# Altium footprint library PCB - CONNECTOR - WURTH - WURTH 693071010811.PCBLIB: 1 footprints
Each footprint in its own frame and in the unit in brackets; x right, y up, seen from the top. Pads: shape width x height; smd on the part's side, far side on the other; paste and mask are expansions set on the pad; w line width, h text height; cw(c..) or ccw(c..) is an arc to the next point about the centre after c.
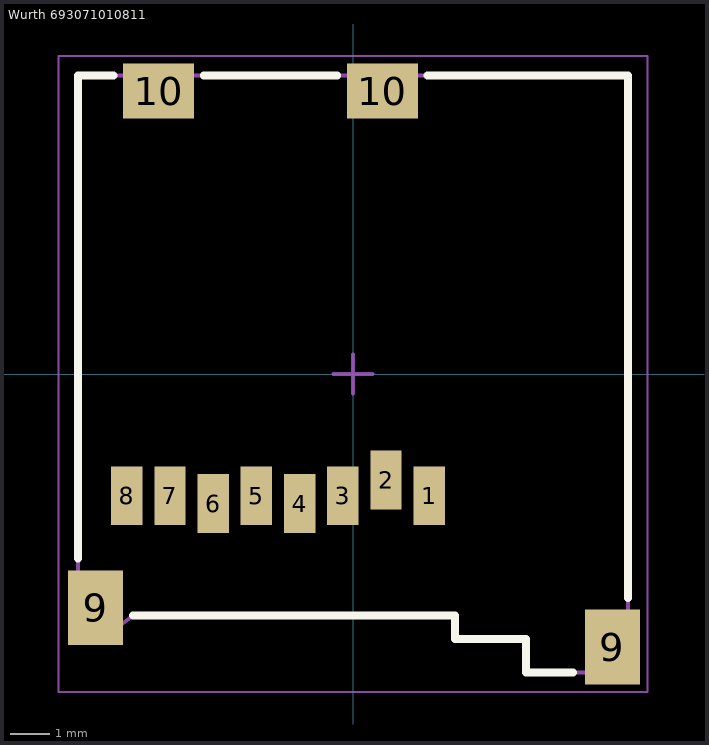
[diagram p0: the footprint, top view; thin cyan lines are the x and y axes]

## Wurth 693071010811 [mm] "9 (8 + 1) Position Card Connector Secure Digital - microSD™ Surface Mount, Right Angle Gold"
height 1.83
pads (12):
  rect 0.8x1.5 smd: 1(1.94,-3.1) 2(0.84,-2.7) 3(-0.26,-3.1) 4(-1.36,-3.3) 5(-2.46,-3.1) 6(-3.56,-3.3) 7(-4.66,-3.1) 8(-5.76,-3.1)
  rect 1.4x1.9 smd: 9(-6.55,-5.95) 9(6.6,-6.95)
  rect 1.8x1.4 smd: 10(-4.95,7.2) 10(0.75,7.2)
Top Overlay:
  lines w0.2: -7,-4.7 -7,7.6 -6.1,7.6 ; -5.6,-6.15 2.6,-6.15 2.6,-6.75 4.4,-6.75 4.4,-7.6 5.6,-7.6 ; -3.8,7.6 -0.4,7.6 ; 1.9,7.6 7,7.6 7,-5.7
Mechanical 13:
  lines w0.1: -6.2,-6.6 -7,-6.6 -7,7.6 7,7.6 7,-7.6 4.4,-7.6 4.4,-6.75 2.6,-6.75 2.6,-6.15 -5.6,-6.15 -6.199,-6.601
Mechanical 15:
  lines w0.05: -7.5,-8.1 7.5,-8.1 7.5,8.1 -7.5,8.1 -7.5,-8.1
  lines w0.1: -0.5,0 0.5,0 ; 0,-0.5 0,0.5
3D body "Wurth - WR-CRD 693071010811.step": height 1.84, standoff -0.07, extent -7,-7.6 7,7.6